# Altium schematic symbol library HEADER_1x4.Schlib: 1 symbol
Pins are listed as number, name and electrical type; pins without a type are passive.

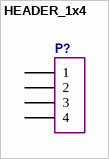
[diagram p0: symbol HEADER_1x4]

## HEADER_1x4
designator P?  (value not drawn)
Header, 4-Pin
pins: 1, 2, 3, 4